# EAGLE library part HEADER-3X2 (library GW-devices)
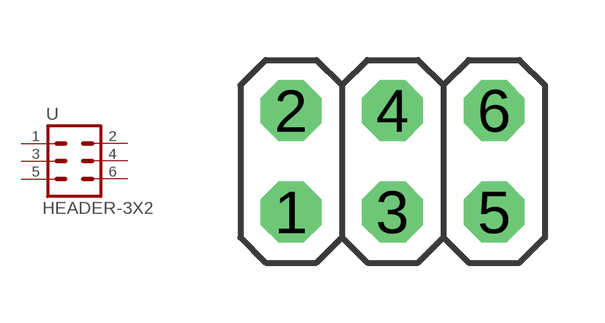
[diagram p49: symbol with the pads of HEADER-3X2; footprint HEADER-3X2]

Designator prefix -

## HEADER-3X2  [HEADER-3X2]
1  1  pas
2  2  pas
3  3  pas
4  4  pas
5  5  pas
6  6  pas

## Footprint HEADER-3X2 (pad centres in mm)
PIN HEADER
drill 1.016 octagon: 1 -5.08,0; 2 -5.08,2.54; 3 -2.54,0; 4 -2.54,2.54; 5 0,0; 6 0,2.54